# Altium integrated library Var_Res.IntLib: 1 symbol
Pins are listed as number, name and electrical type; pins without a type are passive.

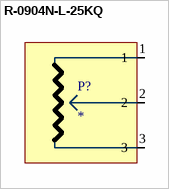
[diagram p0: symbol R-0904N-L-25KQ]

## R-0904N-L-25KQ
designator P?
R-0904N-L-25KQ 10 kOhm; Value: 10 kOhm
footprint R-0904N-L-25KQ
pins: 1, 2, 3